# EAGLE library part 72309 (library contrib-con-misc)
Dual USB connector receptacle, female, type A, through hole
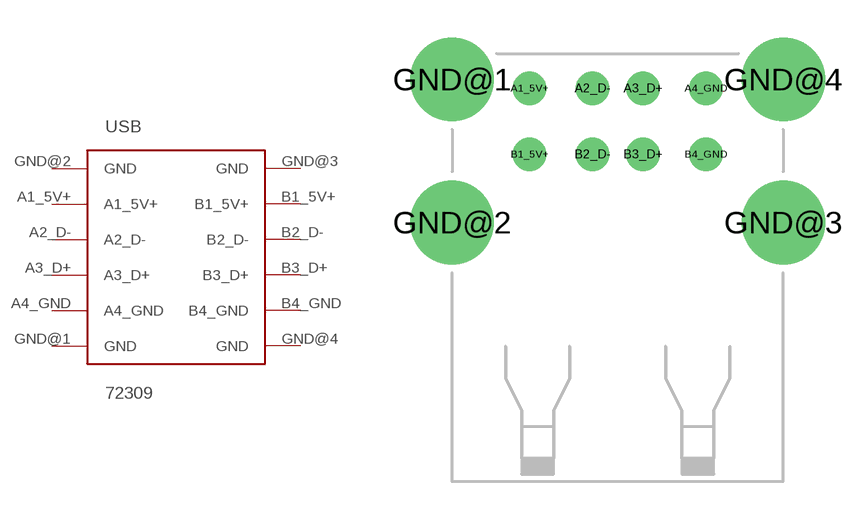
[diagram p0: symbol with the pads of 72309; footprint 72309]

Designator prefix USB

## 72309USB-TYPE-A  [72309]
A1_5V+  A1_5V+
A2_D-  A2_D-
A3_D+  A3_D+
A4_GND  A4_GND
B1_5V+  B1_5V+
B2_D-  B2_D-
B3_D+  B3_D+
B4_GND  B4_GND
GND@1  GND
GND@2  GND
GND@3  GND
GND@4  GND

## Footprint 72309 (pad centres in mm)
Dual USB connector receptacle, female, type A, through hole Manufacturer: FCI Part number: 72309
drill 0.813: A1_5V+ -3.5,2.62; A2_D- -1,2.62; A3_D+ 1,2.62; A4_GND 3.5,2.62; B1_5V+ -3.5,0; B2_D- -1,0; B3_D+ 1,0; B4_GND 3.5,0
drill 2.3: GND@1 -6.57,2.97; GND@2 -6.57,-2.71; GND@3 6.57,-2.71; GND@4 6.57,2.97